# EAGLE library part SKY65404 (library Skyworks)
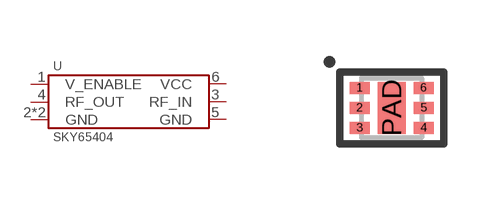
[diagram p1: symbol with the pads of XFDFN-6-1.5MM; footprint XFDFN-6-1.5MM]

Designator prefix U

## SKY65404-31  [XFDFN-6-1.5MM]
1  V_ENABLE
2  GND
3  RF_IN
4  RF_OUT
5  GND
6  VCC
PAD  GND

## Footprint XFDFN-6-1.5MM (pad centres in mm)
smd 0.5 x 0.3: 1 -0.8,0.5; 2 -0.8,0; 3 -0.8,-0.5; 4 0.8,-0.5; 5 0.8,0; 6 0.8,0.5
smd 0.7 x 1.3: PAD 0,0